# Altium integrated library Linear Technology Power Management LED Driver ICs.IntLib: 490 symbols (part 15 of 48)
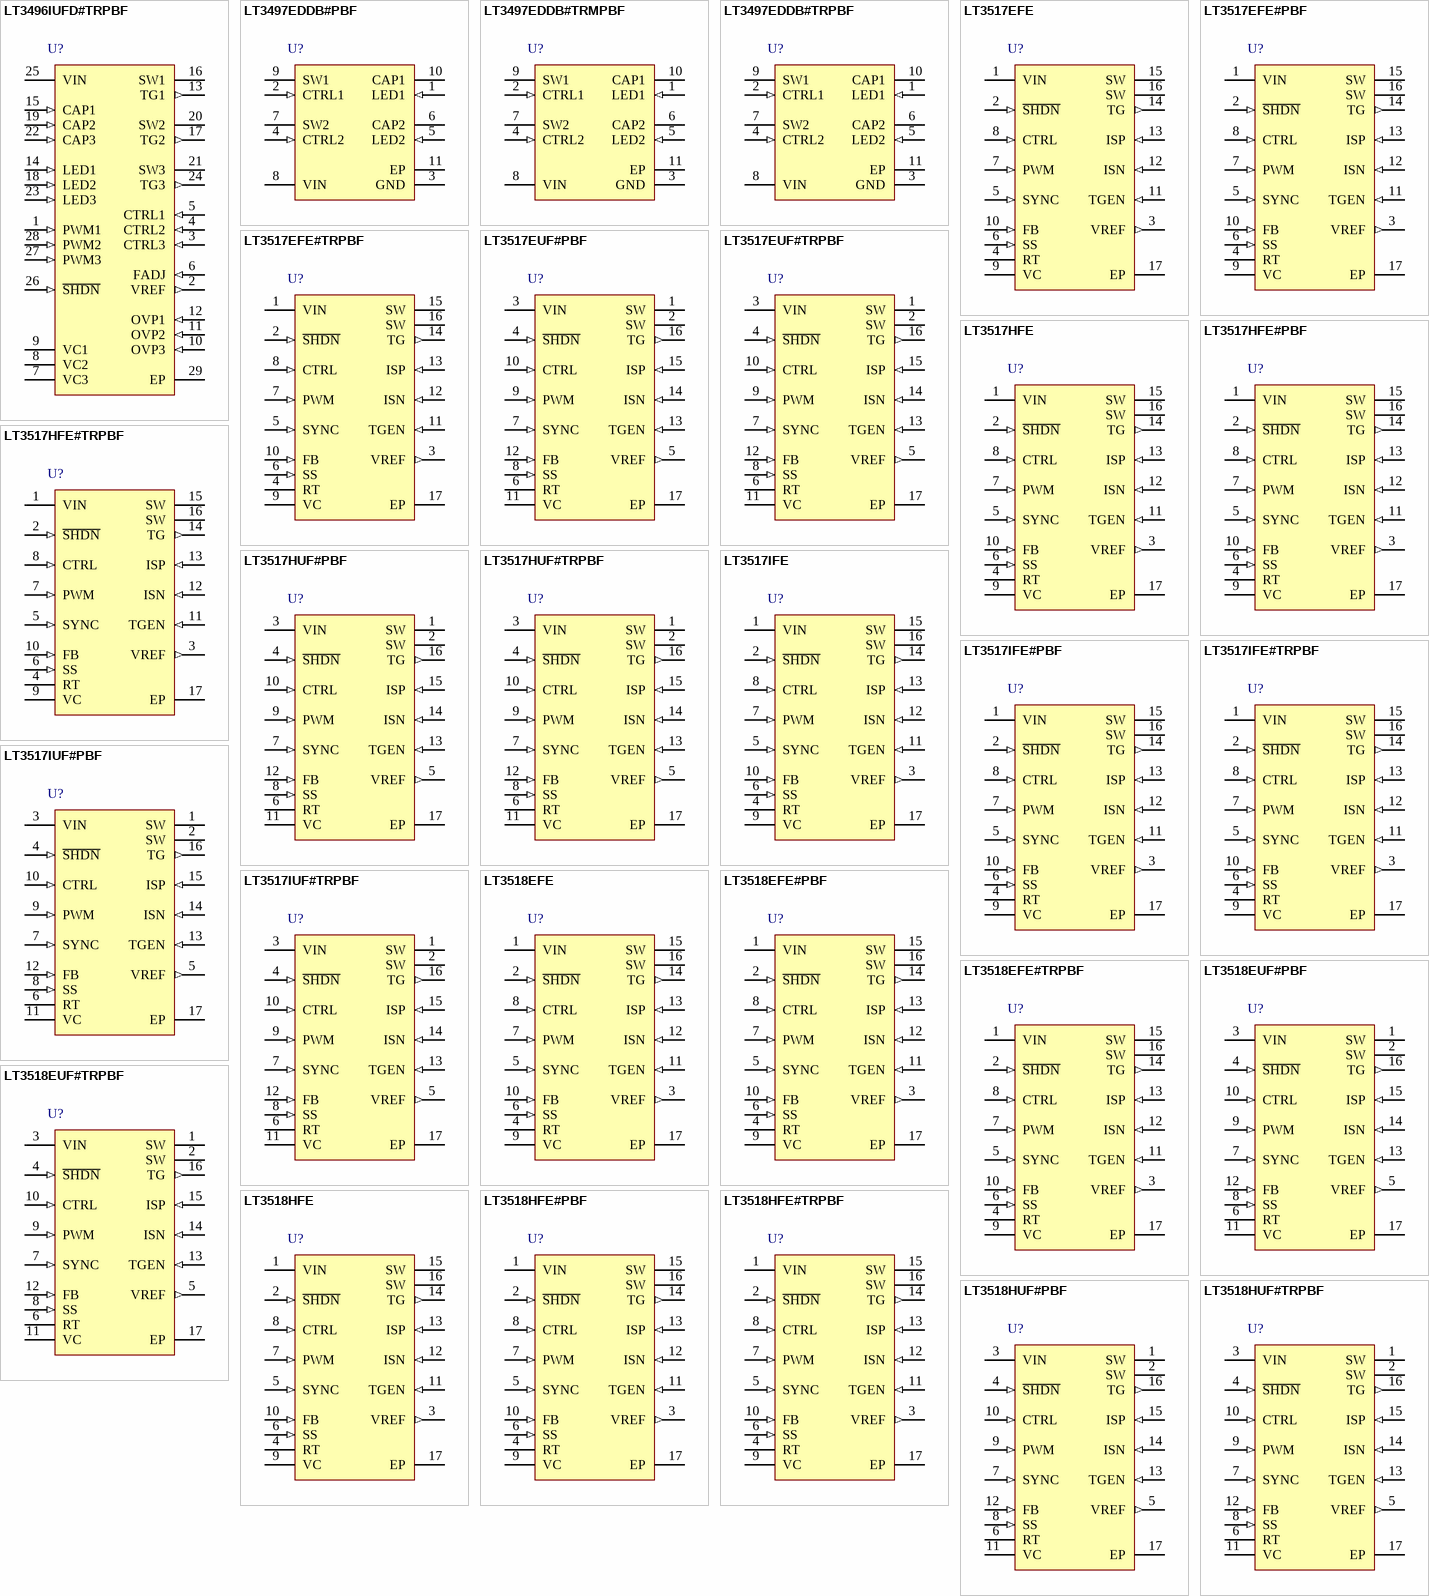
[diagram p34: symbols LT3496IUFD#TRPBF to LT3518HUF#TRPBF]

## LT3518HUF#TRPBF
designator U?
Full-Featured LED Driver with 2.3 A Switch Current, 3 to 40 V Vin, 45 V Vout MAX, 16-pin QFN (UF-16), -40 to 150 degC, Pb-Free, Tape and Reel; Manufacturer: Linear Technology; PartNumber: LT3518HUF#TRPBF; Topology: Buck, Boost, Buck-Boost, LED Driver; Vin Min(V): 3; DatasheetVersion: Rev. E; PackageVersion: Jun-10; PackageReference: UF-16; PackageDescription: 16-Pin Plastic QFN, Body 4 x 4 mm, Pitch 0.65 mm; Supplier 1: Digi-Key; Supplier Part Number 1: LT3518HUF#TRPBF-ND; Supplier 2: Newark; Supplier Part Number 2: 27W9528; Packing: Tape and Reel; RoHS: TRUE; Mounting Technology: Surface Mount; Code_JEDEC: MO-220; ComponentLink1Description: Manufacturer URL; ComponentLink1URL: http://www.linear.com/; ComponentLink2Description: Datasheet; ComponentLink2URL: http://cds.linear.com/docs/en/datasheet/3518fe.pdf; ComponentLink3Description: Package Specification; ComponentLink3URL: http://cds.linear.com/docs/en/packaging/QFN_16_05-08-1692.pdf
footprint LT-UF-16_N (QFN, 16-Leads, Body 4.1x4.1mm, Pitch 0.65mm, Thermal Pad 2.15x2.15mm, IPC Medium Density)
footprint LT-UF-16_L (QFN, 16-Leads, Body 4.1x4.1mm, Pitch 0.65mm, Thermal Pad 2.15x2.15mm, IPC High Density)
footprint LT-UF-16_M (QFN, 16-Leads, Body 4.1x4.1mm, Pitch 0.65mm, Thermal Pad 2.15x2.15mm, IPC Low Density)
pins: 1 SW (power) "Switch Pin. Minimize trace at this pin to reduce EMI.", 2 SW (power) "Switch Pin. Minimize trace at this pin to reduce EMI.", 3 VIN (power) "Input Supply Pin. Must be locally bypassed.", 4 ~{SHDN} (in) "Shutdown Pin. Tie to 1.5V or higher to enable device or 0.4V or less to disable device.", 5 VREF (out) "Reference Output Pin. This pin can supply up to 100uA.", 6 RT "Switching Frequency Adjustment Pin. Set switching frequency using a resistor to GND (see Typical Performance Characteristics for values). For SYNC function, choose the resistor to program a frequency 20% slower than the SYNC (See Datasheet)", 7 SYNC (in) "Frequency Synchronization Pin. Tie an external clock signal here. RT resistor should be chosen to program a switching frequency 20% slower than SYNC pulse frequency. Synchronization (power switch turn-on) occurs a fixed (See Datasheet)", 8 SS (in) "Soft-Start Pin. Place a soft-start capacitor here. Leave the pin open if not in use.", 9 PWM (in) "Pulse Width Modulated Input Pin. Signal low turns off channel, disables the main switch and makes the TG pin high. Tie the PWM pin to S\H\D\N\ pin if not used. There is an equivalent 50k resistor from PWM pin to ground (See Datasheet)", 10 CTRL (in) "LED Current Adjustment Pin. Sets voltage across sense resistor between ISP and ISN. Connect directly to VREF for full-scale threshold of 100mV, or use signal values between GND and 1V to modulate LED current. Tie the CTRL (See Datasheet)", 11 VC "gm Error Amplifier Output Pin. Stabilize the loop with an RC network or compensating C.", 12 FB (in) "Voltage Loop Feedback Pin. Works as overvoltage protection for LED drivers. If FB is higher than 1V, the main switch is turned off.", 13 TGEN (in) "Top Gate Enable Input Pin. Tie to 1.5V or higher to enable the PMOS driver function. Tie the TGEN pin to ground if TG function is not used. There is an equivalent 40k resistor from TGEN pin to ground internally.", 14 ISN (in) "Current Sense (-) Pin. The inverting input to the current sense amplifier.", 15 ISP (in) "Current Sense (+) Pin. The noninverting input to the current sense amplifier. Also serves as positive rail for TG pin driver.", 16 TG (out) "Top Gate Driver Output. An inverted PWM signal drives series PMOS device between VISP and (VISP - 7V). An internal 7V clamp protects the VISP PMOS gate. Leave TG unconnected if not used.", 17 EP (power) "Exposed Pad. Solder paddle directly to ground plane."

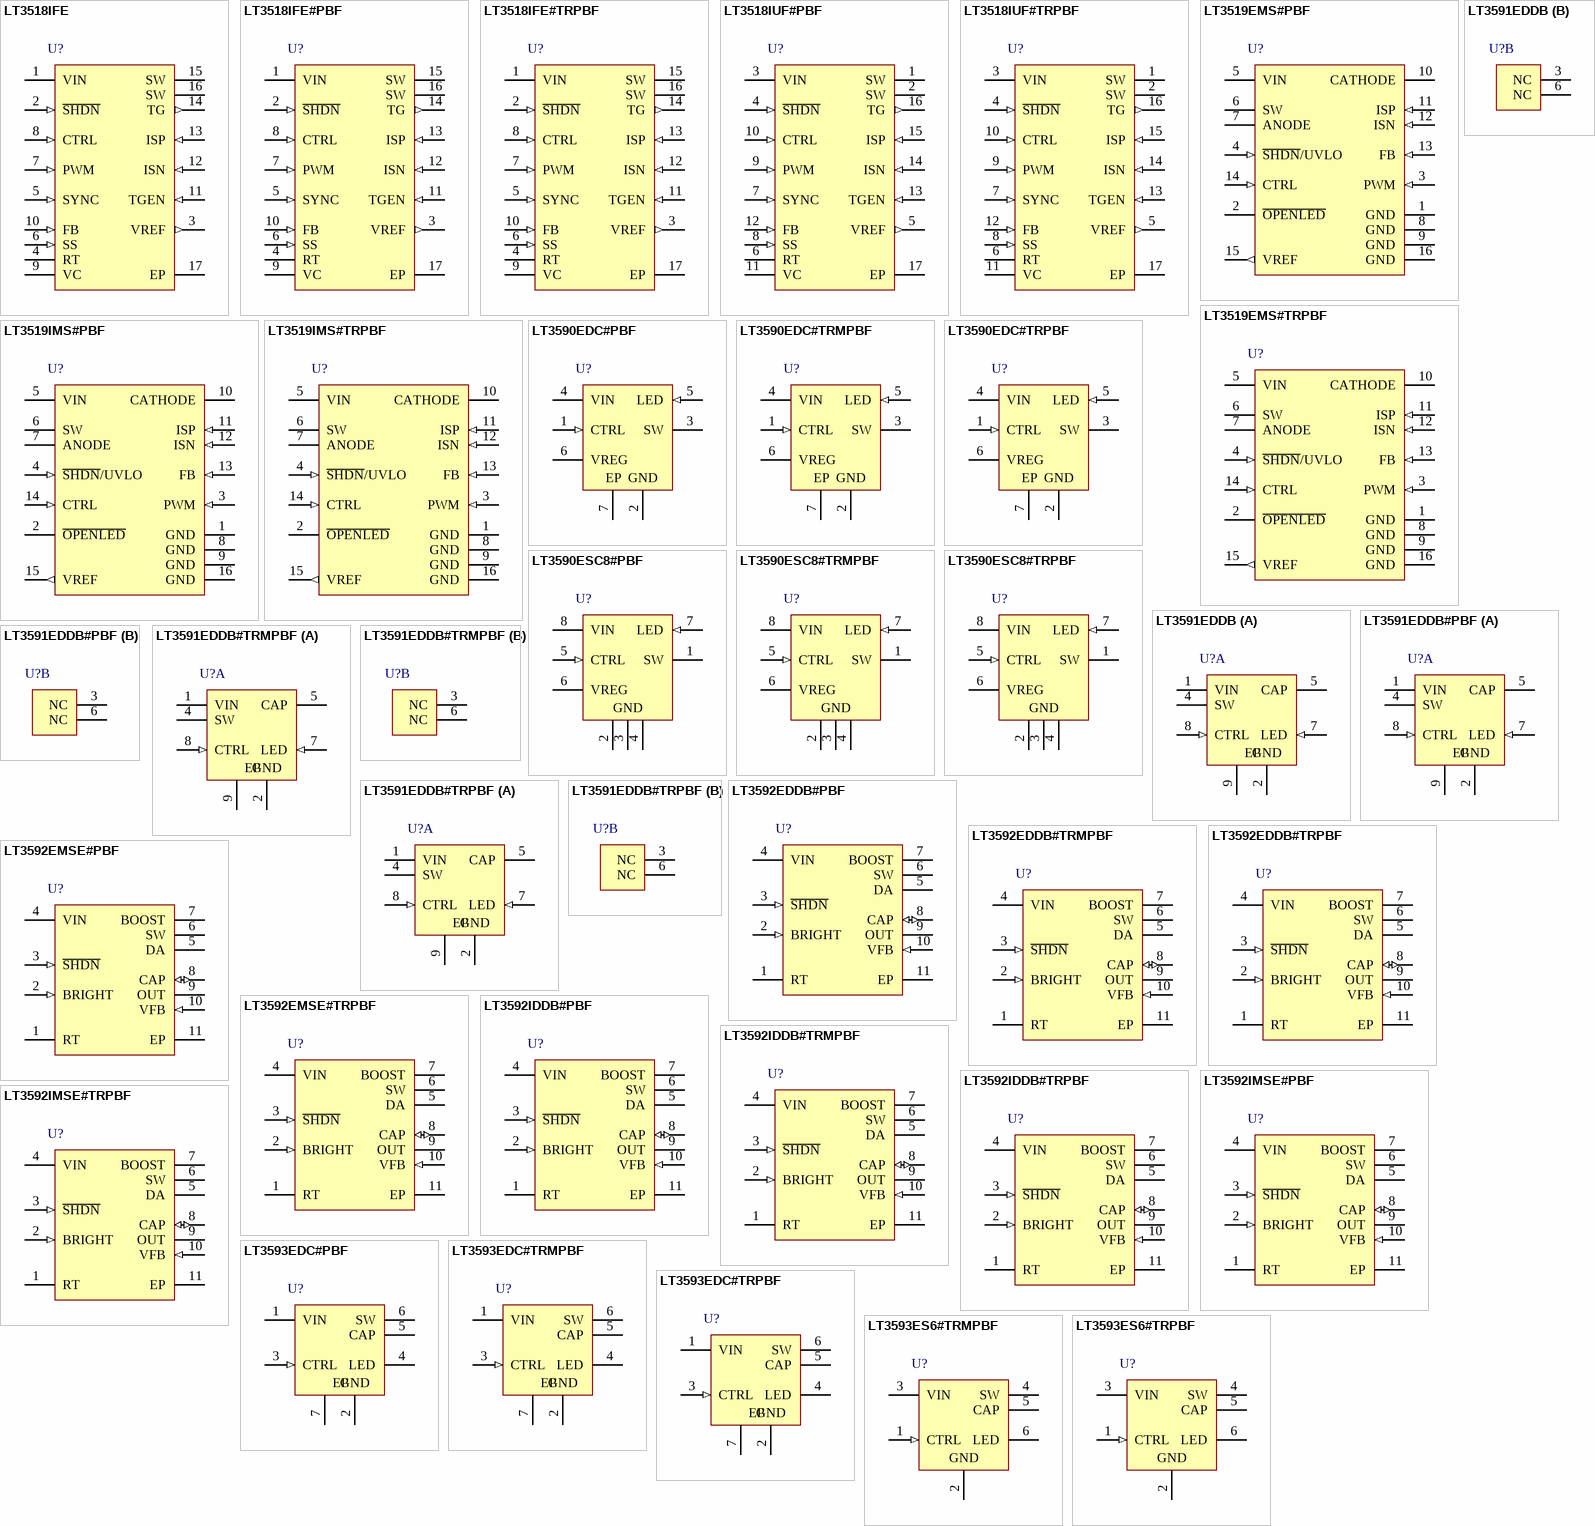
[diagram p6: symbols LT3518IFE to LT3593ES6#TRPBF]

## LT3518IFE
designator U?
Full-Featured LED Driver with 2.3 A Switch Current, 3 to 40 V Vin, 45 V Vout MAX, 16-pin SOP (FE-16-EPV-BA), -40 to 125 degC; Manufacturer: Linear Technology; PartNumber: LT3518IFE; Topology: Buck, Boost, Buck-Boost, LED Driver; Vin Min(V): 3; DatasheetVersion: Rev. E; PackageVersion: Rev. I, 05/2011; PackageReference: FE-16; PackageDescription: 16-Pin Plastic TSSOP, Body 5 x 4.4 mm, Pitch 0.65 mm; RoHS: FALSE; Mounting Technology: Surface Mount; ComponentLink1Description: Manufacturer URL; ComponentLink1URL: http://www.linear.com/; ComponentLink2Description: Datasheet; ComponentLink2URL: http://cds.linear.com/docs/en/datasheet/3518fe.pdf; ComponentLink3Description: Package Specification; ComponentLink3URL: http://cds.linear.com/docs/en/packaging/05081663_J_FE16(BA).pdf
footprint LT-FE-16-EPV-BA_N (SOP, 16-Leads, Body 5x4.4mm, Pitch 0.65mm, Thermal Pad 2.74x2.74mm, IPC Medium Density)
footprint LT-FE-16-EPV-BA_L (SOP, 16-Leads, Body 5x4.4mm, Pitch 0.65mm, Thermal Pad 2.74x2.74mm, IPC High Density)
footprint LT-FE-16-EPV-BA_M (SOP, 16-Leads, Body 5x4.4mm, Pitch 0.65mm, Thermal Pad 2.74x2.74mm, IPC Low Density)
pins: 1 VIN (power) "Input Supply Pin. Must be locally bypassed.", 2 ~{SHDN} (in) "Shutdown Pin. Tie to 1.5V or higher to enable device or 0.4V or less to disable device.", 3 VREF (out) "Reference Output Pin. This pin can supply up to 100uA.", 4 RT "Switching Frequency Adjustment Pin. Set switching frequency using a resistor to GND (see Typical Performance Characteristics for values). For SYNC function, choose the resistor to program a frequency 20% slower than the SYNC (See Datasheet)", 5 SYNC (in) "Frequency Synchronization Pin. Tie an external clock signal here. RT resistor should be chosen to program a switching frequency 20% slower than SYNC pulse frequency. Synchronization (power switch turn-on) occurs a fixed (See Datasheet)", 6 SS (in) "Soft-Start Pin. Place a soft-start capacitor here. Leave the pin open if not in use.", 7 PWM (in) "Pulse Width Modulated Input Pin. Signal low turns off channel, disables the main switch and makes the TG pin high. Tie the PWM pin to S\H\D\N\ pin if not used. There is an equivalent 50k resistor from PWM pin to ground (See Datasheet)", 8 CTRL (in) "LED Current Adjustment Pin. Sets voltage across sense resistor between ISP and ISN. Connect directly to VREF for full-scale threshold of 100mV, or use signal values between GND and 1V to modulate LED current. Tie the CTRL (See Datasheet)", 9 VC "gm Error Amplifier Output Pin. Stabilize the loop with an RC network or compensating C.", 10 FB (in) "Voltage Loop Feedback Pin. Works as overvoltage protection for LED drivers. If FB is higher than 1V, the main switch is turned off.", 11 TGEN (in) "Top Gate Enable Input Pin. Tie to 1.5V or higher to enable the PMOS driver function. Tie the TGEN pin to ground if TG function is not used. There is an equivalent 40k resistor from TGEN pin to ground internally.", 12 ISN (in) "Current Sense (-) Pin. The inverting input to the current sense amplifier.", 13 ISP (in) "Current Sense (+) Pin. The noninverting input to the current sense amplifier. Also serves as positive rail for TG pin driver.", 14 TG (out) "Top Gate Driver Output. An inverted PWM signal drives series PMOS device between VISP and (VISP - 7V). An internal 7V clamp protects the VISP PMOS gate. Leave TG unconnected if not used.", 15 SW (power) "Switch Pin. Minimize trace at this pin to reduce EMI.", 16 SW (power) "Switch Pin. Minimize trace at this pin to reduce EMI.", 17 EP (power) "Exposed Pad. Solder paddle directly to ground plane."

## LT3518IFE#PBF
designator U?
Full-Featured LED Driver with 2.3 A Switch Current, 3 to 40 V Vin, 45 V Vout MAX, 16-pin SOP (FE-16-EPV-BA), -40 to 125 degC, Pb-Free; Manufacturer: Linear Technology; PartNumber: LT3518IFE#PBF; Topology: Buck, Boost, Buck-Boost, LED Driver; Vin Min(V): 3; DatasheetVersion: Rev. E; PackageVersion: Rev. I, 05/2011; PackageReference: FE-16; PackageDescription: 16-Pin Plastic TSSOP, Body 5 x 4.4 mm, Pitch 0.65 mm; Supplier 1: Digi-Key; Supplier Part Number 1: LT3518IFE#PBF-ND; RoHS: TRUE; Mounting Technology: Surface Mount; ComponentLink1Description: Manufacturer URL; ComponentLink1URL: http://www.linear.com/; ComponentLink2Description: Datasheet; ComponentLink2URL: http://cds.linear.com/docs/en/datasheet/3518fe.pdf; ComponentLink3Description: Package Specification; ComponentLink3URL: http://cds.linear.com/docs/en/packaging/05081663_J_FE16(BA).pdf
footprint LT-FE-16-EPV-BA_N (SOP, 16-Leads, Body 5x4.4mm, Pitch 0.65mm, Thermal Pad 2.74x2.74mm, IPC Medium Density)
footprint LT-FE-16-EPV-BA_L (SOP, 16-Leads, Body 5x4.4mm, Pitch 0.65mm, Thermal Pad 2.74x2.74mm, IPC High Density)
footprint LT-FE-16-EPV-BA_M (SOP, 16-Leads, Body 5x4.4mm, Pitch 0.65mm, Thermal Pad 2.74x2.74mm, IPC Low Density)
pins: 1 VIN (power) "Input Supply Pin. Must be locally bypassed.", 2 ~{SHDN} (in) "Shutdown Pin. Tie to 1.5V or higher to enable device or 0.4V or less to disable device.", 3 VREF (out) "Reference Output Pin. This pin can supply up to 100uA.", 4 RT "Switching Frequency Adjustment Pin. Set switching frequency using a resistor to GND (see Typical Performance Characteristics for values). For SYNC function, choose the resistor to program a frequency 20% slower than the SYNC (See Datasheet)", 5 SYNC (in) "Frequency Synchronization Pin. Tie an external clock signal here. RT resistor should be chosen to program a switching frequency 20% slower than SYNC pulse frequency. Synchronization (power switch turn-on) occurs a fixed (See Datasheet)", 6 SS (in) "Soft-Start Pin. Place a soft-start capacitor here. Leave the pin open if not in use.", 7 PWM (in) "Pulse Width Modulated Input Pin. Signal low turns off channel, disables the main switch and makes the TG pin high. Tie the PWM pin to S\H\D\N\ pin if not used. There is an equivalent 50k resistor from PWM pin to ground (See Datasheet)", 8 CTRL (in) "LED Current Adjustment Pin. Sets voltage across sense resistor between ISP and ISN. Connect directly to VREF for full-scale threshold of 100mV, or use signal values between GND and 1V to modulate LED current. Tie the CTRL (See Datasheet)", 9 VC "gm Error Amplifier Output Pin. Stabilize the loop with an RC network or compensating C.", 10 FB (in) "Voltage Loop Feedback Pin. Works as overvoltage protection for LED drivers. If FB is higher than 1V, the main switch is turned off.", 11 TGEN (in) "Top Gate Enable Input Pin. Tie to 1.5V or higher to enable the PMOS driver function. Tie the TGEN pin to ground if TG function is not used. There is an equivalent 40k resistor from TGEN pin to ground internally.", 12 ISN (in) "Current Sense (-) Pin. The inverting input to the current sense amplifier.", 13 ISP (in) "Current Sense (+) Pin. The noninverting input to the current sense amplifier. Also serves as positive rail for TG pin driver.", 14 TG (out) "Top Gate Driver Output. An inverted PWM signal drives series PMOS device between VISP and (VISP - 7V). An internal 7V clamp protects the VISP PMOS gate. Leave TG unconnected if not used.", 15 SW (power) "Switch Pin. Minimize trace at this pin to reduce EMI.", 16 SW (power) "Switch Pin. Minimize trace at this pin to reduce EMI.", 17 EP (power) "Exposed Pad. Solder paddle directly to ground plane."

## LT3518IFE#TRPBF
designator U?
Full-Featured LED Driver with 2.3 A Switch Current, 3 to 40 V Vin, 45 V Vout MAX, 16-pin SOP (FE-16-EPV-BA), -40 to 125 degC, Pb-Free, Tape and Reel; Manufacturer: Linear Technology; PartNumber: LT3518IFE#TRPBF; Topology: Buck, Boost, Buck-Boost, LED Driver; Vin Min(V): 3; DatasheetVersion: Rev. E; PackageVersion: Rev. I, 05/2011; PackageReference: FE-16; PackageDescription: 16-Pin Plastic TSSOP, Body 5 x 4.4 mm, Pitch 0.65 mm; Supplier 1: Digi-Key; Supplier Part Number 1: LT3518IFE#TRPBF-ND; Packing: Tape and Reel; RoHS: TRUE; Mounting Technology: Surface Mount; ComponentLink1Description: Manufacturer URL; ComponentLink1URL: http://www.linear.com/; ComponentLink2Description: Datasheet; ComponentLink2URL: http://cds.linear.com/docs/en/datasheet/3518fe.pdf; ComponentLink3Description: Package Specification; ComponentLink3URL: http://cds.linear.com/docs/en/packaging/05081663_J_FE16(BA).pdf
footprint LT-FE-16-EPV-BA_N (SOP, 16-Leads, Body 5x4.4mm, Pitch 0.65mm, Thermal Pad 2.74x2.74mm, IPC Medium Density)
footprint LT-FE-16-EPV-BA_L (SOP, 16-Leads, Body 5x4.4mm, Pitch 0.65mm, Thermal Pad 2.74x2.74mm, IPC High Density)
footprint LT-FE-16-EPV-BA_M (SOP, 16-Leads, Body 5x4.4mm, Pitch 0.65mm, Thermal Pad 2.74x2.74mm, IPC Low Density)
pins: 1 VIN (power) "Input Supply Pin. Must be locally bypassed.", 2 ~{SHDN} (in) "Shutdown Pin. Tie to 1.5V or higher to enable device or 0.4V or less to disable device.", 3 VREF (out) "Reference Output Pin. This pin can supply up to 100uA.", 4 RT "Switching Frequency Adjustment Pin. Set switching frequency using a resistor to GND (see Typical Performance Characteristics for values). For SYNC function, choose the resistor to program a frequency 20% slower than the SYNC (See Datasheet)", 5 SYNC (in) "Frequency Synchronization Pin. Tie an external clock signal here. RT resistor should be chosen to program a switching frequency 20% slower than SYNC pulse frequency. Synchronization (power switch turn-on) occurs a fixed (See Datasheet)", 6 SS (in) "Soft-Start Pin. Place a soft-start capacitor here. Leave the pin open if not in use.", 7 PWM (in) "Pulse Width Modulated Input Pin. Signal low turns off channel, disables the main switch and makes the TG pin high. Tie the PWM pin to S\H\D\N\ pin if not used. There is an equivalent 50k resistor from PWM pin to ground (See Datasheet)", 8 CTRL (in) "LED Current Adjustment Pin. Sets voltage across sense resistor between ISP and ISN. Connect directly to VREF for full-scale threshold of 100mV, or use signal values between GND and 1V to modulate LED current. Tie the CTRL (See Datasheet)", 9 VC "gm Error Amplifier Output Pin. Stabilize the loop with an RC network or compensating C.", 10 FB (in) "Voltage Loop Feedback Pin. Works as overvoltage protection for LED drivers. If FB is higher than 1V, the main switch is turned off.", 11 TGEN (in) "Top Gate Enable Input Pin. Tie to 1.5V or higher to enable the PMOS driver function. Tie the TGEN pin to ground if TG function is not used. There is an equivalent 40k resistor from TGEN pin to ground internally.", 12 ISN (in) "Current Sense (-) Pin. The inverting input to the current sense amplifier.", 13 ISP (in) "Current Sense (+) Pin. The noninverting input to the current sense amplifier. Also serves as positive rail for TG pin driver.", 14 TG (out) "Top Gate Driver Output. An inverted PWM signal drives series PMOS device between VISP and (VISP - 7V). An internal 7V clamp protects the VISP PMOS gate. Leave TG unconnected if not used.", 15 SW (power) "Switch Pin. Minimize trace at this pin to reduce EMI.", 16 SW (power) "Switch Pin. Minimize trace at this pin to reduce EMI.", 17 EP (power) "Exposed Pad. Solder paddle directly to ground plane."

## LT3518IUF#PBF
designator U?
Full-Featured LED Driver with 2.3 A Switch Current, 3 to 40 V Vin, 45 V Vout MAX, 16-pin QFN (UF-16), -40 to 125 degC, Pb-Free; Manufacturer: Linear Technology; PartNumber: LT3518IUF#PBF; Topology: Buck, Boost, Buck-Boost, LED Driver; Vin Min(V): 3; DatasheetVersion: Rev. E; PackageVersion: Jun-10; PackageReference: UF-16; PackageDescription: 16-Pin Plastic QFN, Body 4 x 4 mm, Pitch 0.65 mm; Supplier 1: Digi-Key; Supplier Part Number 1: LT3518IUF#PBF-ND; Supplier 2: Farnell; Supplier Part Number 2: 1432695; Supplier 3: Newark; Supplier Part Number 3: 57M8513; RoHS: TRUE; Mounting Technology: Surface Mount; Code_JEDEC: MO-220; ComponentLink1Description: Manufacturer URL; ComponentLink1URL: http://www.linear.com/; ComponentLink2Description: Datasheet; ComponentLink2URL: http://cds.linear.com/docs/en/datasheet/3518fe.pdf; ComponentLink3Description: Package Specification; ComponentLink3URL: http://cds.linear.com/docs/en/packaging/QFN_16_05-08-1692.pdf
footprint LT-UF-16_N (QFN, 16-Leads, Body 4.1x4.1mm, Pitch 0.65mm, Thermal Pad 2.15x2.15mm, IPC Medium Density)
footprint LT-UF-16_L (QFN, 16-Leads, Body 4.1x4.1mm, Pitch 0.65mm, Thermal Pad 2.15x2.15mm, IPC High Density)
footprint LT-UF-16_M (QFN, 16-Leads, Body 4.1x4.1mm, Pitch 0.65mm, Thermal Pad 2.15x2.15mm, IPC Low Density)
pins: 1 SW (power) "Switch Pin. Minimize trace at this pin to reduce EMI.", 2 SW (power) "Switch Pin. Minimize trace at this pin to reduce EMI.", 3 VIN (power) "Input Supply Pin. Must be locally bypassed.", 4 ~{SHDN} (in) "Shutdown Pin. Tie to 1.5V or higher to enable device or 0.4V or less to disable device.", 5 VREF (out) "Reference Output Pin. This pin can supply up to 100uA.", 6 RT "Switching Frequency Adjustment Pin. Set switching frequency using a resistor to GND (see Typical Performance Characteristics for values). For SYNC function, choose the resistor to program a frequency 20% slower than the SYNC (See Datasheet)", 7 SYNC (in) "Frequency Synchronization Pin. Tie an external clock signal here. RT resistor should be chosen to program a switching frequency 20% slower than SYNC pulse frequency. Synchronization (power switch turn-on) occurs a fixed (See Datasheet)", 8 SS (in) "Soft-Start Pin. Place a soft-start capacitor here. Leave the pin open if not in use.", 9 PWM (in) "Pulse Width Modulated Input Pin. Signal low turns off channel, disables the main switch and makes the TG pin high. Tie the PWM pin to S\H\D\N\ pin if not used. There is an equivalent 50k resistor from PWM pin to ground (See Datasheet)", 10 CTRL (in) "LED Current Adjustment Pin. Sets voltage across sense resistor between ISP and ISN. Connect directly to VREF for full-scale threshold of 100mV, or use signal values between GND and 1V to modulate LED current. Tie the CTRL (See Datasheet)", 11 VC "gm Error Amplifier Output Pin. Stabilize the loop with an RC network or compensating C.", 12 FB (in) "Voltage Loop Feedback Pin. Works as overvoltage protection for LED drivers. If FB is higher than 1V, the main switch is turned off.", 13 TGEN (in) "Top Gate Enable Input Pin. Tie to 1.5V or higher to enable the PMOS driver function. Tie the TGEN pin to ground if TG function is not used. There is an equivalent 40k resistor from TGEN pin to ground internally.", 14 ISN (in) "Current Sense (-) Pin. The inverting input to the current sense amplifier.", 15 ISP (in) "Current Sense (+) Pin. The noninverting input to the current sense amplifier. Also serves as positive rail for TG pin driver.", 16 TG (out) "Top Gate Driver Output. An inverted PWM signal drives series PMOS device between VISP and (VISP - 7V). An internal 7V clamp protects the VISP PMOS gate. Leave TG unconnected if not used.", 17 EP (power) "Exposed Pad. Solder paddle directly to ground plane."

## LT3518IUF#TRPBF
designator U?
Full-Featured LED Driver with 2.3 A Switch Current, 3 to 40 V Vin, 45 V Vout MAX, 16-pin QFN (UF-16), -40 to 125 degC, Pb-Free, Tape and Reel; Manufacturer: Linear Technology; PartNumber: LT3518IUF#TRPBF; Topology: Buck, Boost, Buck-Boost, LED Driver; Vin Min(V): 3; DatasheetVersion: Rev. E; PackageVersion: Jun-10; PackageReference: UF-16; PackageDescription: 16-Pin Plastic QFN, Body 4 x 4 mm, Pitch 0.65 mm; Supplier 1: Digi-Key; Supplier Part Number 1: LT3518IUF#TRPBF-ND; Packing: Tape and Reel; RoHS: TRUE; Mounting Technology: Surface Mount; Code_JEDEC: MO-220; ComponentLink1Description: Manufacturer URL; ComponentLink1URL: http://www.linear.com/; ComponentLink2Description: Datasheet; ComponentLink2URL: http://cds.linear.com/docs/en/datasheet/3518fe.pdf; ComponentLink3Description: Package Specification; ComponentLink3URL: http://cds.linear.com/docs/en/packaging/QFN_16_05-08-1692.pdf
footprint LT-UF-16_N (QFN, 16-Leads, Body 4.1x4.1mm, Pitch 0.65mm, Thermal Pad 2.15x2.15mm, IPC Medium Density)
footprint LT-UF-16_L (QFN, 16-Leads, Body 4.1x4.1mm, Pitch 0.65mm, Thermal Pad 2.15x2.15mm, IPC High Density)
footprint LT-UF-16_M (QFN, 16-Leads, Body 4.1x4.1mm, Pitch 0.65mm, Thermal Pad 2.15x2.15mm, IPC Low Density)
pins: 1 SW (power) "Switch Pin. Minimize trace at this pin to reduce EMI.", 2 SW (power) "Switch Pin. Minimize trace at this pin to reduce EMI.", 3 VIN (power) "Input Supply Pin. Must be locally bypassed.", 4 ~{SHDN} (in) "Shutdown Pin. Tie to 1.5V or higher to enable device or 0.4V or less to disable device.", 5 VREF (out) "Reference Output Pin. This pin can supply up to 100uA.", 6 RT "Switching Frequency Adjustment Pin. Set switching frequency using a resistor to GND (see Typical Performance Characteristics for values). For SYNC function, choose the resistor to program a frequency 20% slower than the SYNC (See Datasheet)", 7 SYNC (in) "Frequency Synchronization Pin. Tie an external clock signal here. RT resistor should be chosen to program a switching frequency 20% slower than SYNC pulse frequency. Synchronization (power switch turn-on) occurs a fixed (See Datasheet)", 8 SS (in) "Soft-Start Pin. Place a soft-start capacitor here. Leave the pin open if not in use.", 9 PWM (in) "Pulse Width Modulated Input Pin. Signal low turns off channel, disables the main switch and makes the TG pin high. Tie the PWM pin to S\H\D\N\ pin if not used. There is an equivalent 50k resistor from PWM pin to ground (See Datasheet)", 10 CTRL (in) "LED Current Adjustment Pin. Sets voltage across sense resistor between ISP and ISN. Connect directly to VREF for full-scale threshold of 100mV, or use signal values between GND and 1V to modulate LED current. Tie the CTRL (See Datasheet)", 11 VC "gm Error Amplifier Output Pin. Stabilize the loop with an RC network or compensating C.", 12 FB (in) "Voltage Loop Feedback Pin. Works as overvoltage protection for LED drivers. If FB is higher than 1V, the main switch is turned off.", 13 TGEN (in) "Top Gate Enable Input Pin. Tie to 1.5V or higher to enable the PMOS driver function. Tie the TGEN pin to ground if TG function is not used. There is an equivalent 40k resistor from TGEN pin to ground internally.", 14 ISN (in) "Current Sense (-) Pin. The inverting input to the current sense amplifier.", 15 ISP (in) "Current Sense (+) Pin. The noninverting input to the current sense amplifier. Also serves as positive rail for TG pin driver.", 16 TG (out) "Top Gate Driver Output. An inverted PWM signal drives series PMOS device between VISP and (VISP - 7V). An internal 7V clamp protects the VISP PMOS gate. Leave TG unconnected if not used.", 17 EP (power) "Exposed Pad. Solder paddle directly to ground plane."

## LT3519EMS#PBF
designator U?
LED Driver with Integrated Schottky Diode, 3 to 30 V Vin, 45 V Vout MAX, 16-pin SOP (MS-16), -40 to 125 degC, Pb-Free; Manufacturer: Linear Technology; PartNumber: LT3519EMS#PBF; Topology: Boost, Sepic, Buck-Boost, Buck, LED Driver; Vin Min(V): 3; DatasheetVersion: Rev. A; PackageVersion: Rev. Ø, 06/2010; PackageReference: MS16; PackageDescription: 16-Pin Plastic MSOP, Body 4.04 x 3.00 mm, Pitch 0.50 mm; Supplier 1: Digi-Key; Supplier Part Number 1: LT3519EMS#PBF-ND; Supplier 2: Farnell; Supplier Part Number 2: 2294851; Supplier 3: Newark; Supplier Part Number 3: 72R5822; RoHS: TRUE; Mounting Technology: Surface Mount; ComponentLink1Description: Manufacturer URL; ComponentLink1URL: http://www.linear.com/; ComponentLink2Description: Datasheet; ComponentLink2URL: http://cds.linear.com/docs/en/datasheet/3519fa.pdf; ComponentLink3Description: Package Specification; ComponentLink3URL: http://cds.linear.com/docs/en/packaging/05081669_A_MS16.pdf
footprint LT-MS-16_N (SOP, 16-Leads, Body 4.1x3.1mm, Pitch 0.5mm, IPC Medium Density)
footprint LT-MS-16_L (SOP, 16-Leads, Body 4.1x3.1mm, Pitch 0.5mm, IPC High Density)
footprint LT-MS-16_M (SOP, 16-Leads, Body 4.1x3.1mm, Pitch 0.5mm, IPC Low Density)
pins: 1 GND (power) "Power Ground and Signal Ground. Tie to GND plane for best thermal performance.", 2 ~{OPENLED} (oc) "Open LED Status Pin. The O\P\E\N\L\E\D\ pin asserts if the FB input is greater than the FB regulation threshold minus 60mV (typical). The pin must have an external pull-up resistor to function. When the PWM input is low and (See Datasheet)", 3 PWM (in) "Pulse Width Modulated Input. A signal low disables the oscillator and turns off the main switch. PWM has an internal pull-down resistor. Tie PWM pin to VREF if not used.", 4 ~{SHDN}/UVLO (in) "Shutdown and Undervoltage Lockout Pin. An accurate 1.22V falling threshold with externally programmable hysteresis detects when power is okay to enable switching. Rising hysteresis is generated by the external resistor (See Datasheet)", 5 VIN (power) "Input Supply Pin. This pin must be locally bypassed with a 1uF ceramic capacitor (or larger) placed close to it.", 6 SW "Switch Pin. Connect the inductor at this pin. Minimize the trace at this pin to reduce EMI.", 7 ANODE "Internal Schottky Anode Pin.", 8 GND (power) "Power Ground and Signal Ground. Tie to GND plane for best thermal performance.", 9 GND (power) "Power Ground and Signal Ground. Tie to GND plane for best thermal performance.", 10 CATHODE "Internal Schottky Cathode Pin.", 11 ISP (in) "Current Sense Resistor Positive Pin. This input is the noninverting input of the internal current sense amplifier. Input bias current increases with VISP-VISN increase.", 12 ISN (in) "Current Sense Resistor Negative Pin. This input is the inverting input of the internal current sense amplifier.", 13 FB (in) "Voltage Loop Feedback Pin. It is used to connect to output resistor divider for constant voltage regulation or open LED protection. The internal transconductance amplifier will regulate FB to 1.22V (nominal) through the (See Datasheet)", 14 CTRL (in) "Current Sense Threshold Voltage Adjustment Pin. This pin sets the threshold voltage across the sense resistor between ISP and ISN. Connect directly to the VREF pin or a voltage above 1.2V for full-scale threshold of 250mV, (See Datasheet)", 15 VREF (out) "Reference Output Pin. Typically 2V. This pin can supply up to 100uA.", 16 GND (power) "Power Ground and Signal Ground. Tie to GND plane for best thermal performance."

## LT3519EMS#TRPBF
designator U?
LED Driver with Integrated Schottky Diode, 3 to 30 V Vin, 45 V Vout MAX, 16-pin SOP (MS-16), -40 to 125 degC, Pb-Free, Tape and Reel; Manufacturer: Linear Technology; PartNumber: LT3519EMS#TRPBF; Topology: Boost, Sepic, Buck-Boost, Buck, LED Driver; Vin Min(V): 3; DatasheetVersion: Rev. A; PackageVersion: Rev. Ø, 06/2010; PackageReference: MS16; PackageDescription: 16-Pin Plastic MSOP, Body 4.04 x 3.00 mm, Pitch 0.50 mm; Supplier 1: Digi-Key; Supplier Part Number 1: LT3519EMS#TRPBF-ND; Packing: Tape and Reel; RoHS: TRUE; Mounting Technology: Surface Mount; ComponentLink1Description: Manufacturer URL; ComponentLink1URL: http://www.linear.com/; ComponentLink2Description: Datasheet; ComponentLink2URL: http://cds.linear.com/docs/en/datasheet/3519fa.pdf; ComponentLink3Description: Package Specification; ComponentLink3URL: http://cds.linear.com/docs/en/packaging/05081669_A_MS16.pdf
footprint LT-MS-16_N (SOP, 16-Leads, Body 4.1x3.1mm, Pitch 0.5mm, IPC Medium Density)
footprint LT-MS-16_L (SOP, 16-Leads, Body 4.1x3.1mm, Pitch 0.5mm, IPC High Density)
footprint LT-MS-16_M (SOP, 16-Leads, Body 4.1x3.1mm, Pitch 0.5mm, IPC Low Density)
pins: 1 GND (power) "Power Ground and Signal Ground. Tie to GND plane for best thermal performance.", 2 ~{OPENLED} (oc) "Open LED Status Pin. The O\P\E\N\L\E\D\ pin asserts if the FB input is greater than the FB regulation threshold minus 60mV (typical). The pin must have an external pull-up resistor to function. When the PWM input is low and (See Datasheet)", 3 PWM (in) "Pulse Width Modulated Input. A signal low disables the oscillator and turns off the main switch. PWM has an internal pull-down resistor. Tie PWM pin to VREF if not used.", 4 ~{SHDN}/UVLO (in) "Shutdown and Undervoltage Lockout Pin. An accurate 1.22V falling threshold with externally programmable hysteresis detects when power is okay to enable switching. Rising hysteresis is generated by the external resistor (See Datasheet)", 5 VIN (power) "Input Supply Pin. This pin must be locally bypassed with a 1uF ceramic capacitor (or larger) placed close to it.", 6 SW "Switch Pin. Connect the inductor at this pin. Minimize the trace at this pin to reduce EMI.", 7 ANODE "Internal Schottky Anode Pin.", 8 GND (power) "Power Ground and Signal Ground. Tie to GND plane for best thermal performance.", 9 GND (power) "Power Ground and Signal Ground. Tie to GND plane for best thermal performance.", 10 CATHODE "Internal Schottky Cathode Pin.", 11 ISP (in) "Current Sense Resistor Positive Pin. This input is the noninverting input of the internal current sense amplifier. Input bias current increases with VISP-VISN increase.", 12 ISN (in) "Current Sense Resistor Negative Pin. This input is the inverting input of the internal current sense amplifier.", 13 FB (in) "Voltage Loop Feedback Pin. It is used to connect to output resistor divider for constant voltage regulation or open LED protection. The internal transconductance amplifier will regulate FB to 1.22V (nominal) through the (See Datasheet)", 14 CTRL (in) "Current Sense Threshold Voltage Adjustment Pin. This pin sets the threshold voltage across the sense resistor between ISP and ISN. Connect directly to the VREF pin or a voltage above 1.2V for full-scale threshold of 250mV, (See Datasheet)", 15 VREF (out) "Reference Output Pin. Typically 2V. This pin can supply up to 100uA.", 16 GND (power) "Power Ground and Signal Ground. Tie to GND plane for best thermal performance."

## LT3519IMS#PBF
designator U?
LED Driver with Integrated Schottky Diode, 3 to 30 V Vin, 45 V Vout MAX, 16-pin SOP (MS-16), -40 to 125 degC, Pb-Free; Manufacturer: Linear Technology; PartNumber: LT3519IMS#PBF; Topology: Boost, Sepic, Buck-Boost, Buck, LED Driver; Vin Min(V): 3; DatasheetVersion: Rev. A; PackageVersion: Rev. Ø, 06/2010; PackageReference: MS16; PackageDescription: 16-Pin Plastic MSOP, Body 4.04 x 3.00 mm, Pitch 0.50 mm; Supplier 1: Digi-Key; Supplier Part Number 1: LT3519IMS#PBF-ND; RoHS: TRUE; Mounting Technology: Surface Mount; ComponentLink1Description: Manufacturer URL; ComponentLink1URL: http://www.linear.com/; ComponentLink2Description: Datasheet; ComponentLink2URL: http://cds.linear.com/docs/en/datasheet/3519fa.pdf; ComponentLink3Description: Package Specification; ComponentLink3URL: http://cds.linear.com/docs/en/packaging/05081669_A_MS16.pdf
footprint LT-MS-16_N (SOP, 16-Leads, Body 4.1x3.1mm, Pitch 0.5mm, IPC Medium Density)
footprint LT-MS-16_L (SOP, 16-Leads, Body 4.1x3.1mm, Pitch 0.5mm, IPC High Density)
footprint LT-MS-16_M (SOP, 16-Leads, Body 4.1x3.1mm, Pitch 0.5mm, IPC Low Density)
pins: 1 GND (power) "Power Ground and Signal Ground. Tie to GND plane for best thermal performance.", 2 ~{OPENLED} (oc) "Open LED Status Pin. The O\P\E\N\L\E\D\ pin asserts if the FB input is greater than the FB regulation threshold minus 60mV (typical). The pin must have an external pull-up resistor to function. When the PWM input is low and (See Datasheet)", 3 PWM (in) "Pulse Width Modulated Input. A signal low disables the oscillator and turns off the main switch. PWM has an internal pull-down resistor. Tie PWM pin to VREF if not used.", 4 ~{SHDN}/UVLO (in) "Shutdown and Undervoltage Lockout Pin. An accurate 1.22V falling threshold with externally programmable hysteresis detects when power is okay to enable switching. Rising hysteresis is generated by the external resistor (See Datasheet)", 5 VIN (power) "Input Supply Pin. This pin must be locally bypassed with a 1uF ceramic capacitor (or larger) placed close to it.", 6 SW "Switch Pin. Connect the inductor at this pin. Minimize the trace at this pin to reduce EMI.", 7 ANODE "Internal Schottky Anode Pin.", 8 GND (power) "Power Ground and Signal Ground. Tie to GND plane for best thermal performance.", 9 GND (power) "Power Ground and Signal Ground. Tie to GND plane for best thermal performance.", 10 CATHODE "Internal Schottky Cathode Pin.", 11 ISP (in) "Current Sense Resistor Positive Pin. This input is the noninverting input of the internal current sense amplifier. Input bias current increases with VISP-VISN increase.", 12 ISN (in) "Current Sense Resistor Negative Pin. This input is the inverting input of the internal current sense amplifier.", 13 FB (in) "Voltage Loop Feedback Pin. It is used to connect to output resistor divider for constant voltage regulation or open LED protection. The internal transconductance amplifier will regulate FB to 1.22V (nominal) through the (See Datasheet)", 14 CTRL (in) "Current Sense Threshold Voltage Adjustment Pin. This pin sets the threshold voltage across the sense resistor between ISP and ISN. Connect directly to the VREF pin or a voltage above 1.2V for full-scale threshold of 250mV, (See Datasheet)", 15 VREF (out) "Reference Output Pin. Typically 2V. This pin can supply up to 100uA.", 16 GND (power) "Power Ground and Signal Ground. Tie to GND plane for best thermal performance."

## LT3519IMS#TRPBF
designator U?
LED Driver with Integrated Schottky Diode, 3 to 30 V Vin, 45 V Vout MAX, 16-pin SOP (MS-16), -40 to 125 degC, Pb-Free, Tape and Reel; Manufacturer: Linear Technology; PartNumber: LT3519IMS#TRPBF; Topology: Boost, Sepic, Buck-Boost, Buck, LED Driver; Vin Min(V): 3; DatasheetVersion: Rev. A; PackageVersion: Rev. Ø, 06/2010; PackageReference: MS16; PackageDescription: 16-Pin Plastic MSOP, Body 4.04 x 3.00 mm, Pitch 0.50 mm; Supplier 1: Digi-Key; Supplier Part Number 1: LT3519IMS#TRPBF-ND; Packing: Tape and Reel; RoHS: TRUE; Mounting Technology: Surface Mount; ComponentLink1Description: Manufacturer URL; ComponentLink1URL: http://www.linear.com/; ComponentLink2Description: Datasheet; ComponentLink2URL: http://cds.linear.com/docs/en/datasheet/3519fa.pdf; ComponentLink3Description: Package Specification; ComponentLink3URL: http://cds.linear.com/docs/en/packaging/05081669_A_MS16.pdf
footprint LT-MS-16_N (SOP, 16-Leads, Body 4.1x3.1mm, Pitch 0.5mm, IPC Medium Density)
footprint LT-MS-16_L (SOP, 16-Leads, Body 4.1x3.1mm, Pitch 0.5mm, IPC High Density)
footprint LT-MS-16_M (SOP, 16-Leads, Body 4.1x3.1mm, Pitch 0.5mm, IPC Low Density)
pins: 1 GND (power) "Power Ground and Signal Ground. Tie to GND plane for best thermal performance.", 2 ~{OPENLED} (oc) "Open LED Status Pin. The O\P\E\N\L\E\D\ pin asserts if the FB input is greater than the FB regulation threshold minus 60mV (typical). The pin must have an external pull-up resistor to function. When the PWM input is low and (See Datasheet)", 3 PWM (in) "Pulse Width Modulated Input. A signal low disables the oscillator and turns off the main switch. PWM has an internal pull-down resistor. Tie PWM pin to VREF if not used.", 4 ~{SHDN}/UVLO (in) "Shutdown and Undervoltage Lockout Pin. An accurate 1.22V falling threshold with externally programmable hysteresis detects when power is okay to enable switching. Rising hysteresis is generated by the external resistor (See Datasheet)", 5 VIN (power) "Input Supply Pin. This pin must be locally bypassed with a 1uF ceramic capacitor (or larger) placed close to it.", 6 SW "Switch Pin. Connect the inductor at this pin. Minimize the trace at this pin to reduce EMI.", 7 ANODE "Internal Schottky Anode Pin.", 8 GND (power) "Power Ground and Signal Ground. Tie to GND plane for best thermal performance.", 9 GND (power) "Power Ground and Signal Ground. Tie to GND plane for best thermal performance.", 10 CATHODE "Internal Schottky Cathode Pin.", 11 ISP (in) "Current Sense Resistor Positive Pin. This input is the noninverting input of the internal current sense amplifier. Input bias current increases with VISP-VISN increase.", 12 ISN (in) "Current Sense Resistor Negative Pin. This input is the inverting input of the internal current sense amplifier.", 13 FB (in) "Voltage Loop Feedback Pin. It is used to connect to output resistor divider for constant voltage regulation or open LED protection. The internal transconductance amplifier will regulate FB to 1.22V (nominal) through the (See Datasheet)", 14 CTRL (in) "Current Sense Threshold Voltage Adjustment Pin. This pin sets the threshold voltage across the sense resistor between ISP and ISN. Connect directly to the VREF pin or a voltage above 1.2V for full-scale threshold of 250mV, (See Datasheet)", 15 VREF (out) "Reference Output Pin. Typically 2V. This pin can supply up to 100uA.", 16 GND (power) "Power Ground and Signal Ground. Tie to GND plane for best thermal performance."

## LT3590EDC#PBF
designator U?
48 V Buck Mode LED Driver, 4.5 to 55 V Vin, 55 V Vout MAX, 6-pin SON (DC6-6), -40 to 85 degC, Pb-Free; Manufacturer: Linear Technology; PartNumber: LT3590EDC#PBF; Topology: Buck, LED Driver; Vin Min(V): 4.5; PackageVersion: Rev. B, 06/2010; PackageReference: DC6-6; PackageDescription: 6-Pin Plastic DFN, Body 2 x 2 mm, Pitch 0.5 mm; Supplier 1: Farnell; Supplier Part Number 1: 1556252; Supplier 2: Newark; Supplier Part Number 2: 78T4027; RoHS: TRUE; Mounting Technology: Surface Mount; Code_JEDEC: MO-229; ComponentLink1Description: Manufacturer URL; ComponentLink1URL: http://www.linear.com/; ComponentLink2Description: Datasheet; ComponentLink2URL: http://cds.linear.com/docs/en/datasheet/3590f.pdf; ComponentLink3Description: Package Specification; ComponentLink3URL: http://cds.linear.com/docs/en/packaging/DFN_6_05-08-1703.pdf
footprint LT-DC6-6_V (SON, 6-Leads, Body 2x2mm, Pitch 0.5mm, Thermal Pad 1.42x0.61mm)
pins: 1 CTRL (in) "Dimming and Shutdown Pin.Connect it below 100mV to disable the switcher. As the pin voltage is ramped from 0V to 1.5V, the feedback voltage (VIN-VLED) ramps from 0mV to 200mV, controlling the LBD current.", 2 GND (power) "Ground Pins. All ground pins should be tied directly to local ground plane. Proper soldering of these pins to the PCB ground is required to achieve the rated thermal performance", 3 SW "Switch Pin.Minimize inductance at this pin to minimize EMI,Connect the inductor at this pin.", 4 VIN (power) "Input Supply Pin. Must be locally bypassed", 5 LED (in) "Connection point for the anode of the highest LED and the sense resistor.", 6 VREG (power) "Internally Generated 3.3V Regulated Output Pin. Must be locally bypassed with a 0.1uF X5R capacitor.", 7 EP (power) "Ground. The Exposed Pad should be soldered to the PCB ground to achieve the rated thermal performance."

## LT3590EDC#TRMPBF
designator U?
48 V Buck Mode LED Driver, 4.5 to 55 V Vin, 55 V Vout MAX, 6-pin SON (DC6-6), -40 to 85 degC, Pb-Free, Mini Tape and Reel; Manufacturer: Linear Technology; PartNumber: LT3590EDC#TRMPBF; Topology: Buck, LED Driver; Vin Min(V): 4.5; PackageVersion: Rev. B, 06/2010; PackageReference: DC6-6; PackageDescription: 6-Pin Plastic DFN, Body 2 x 2 mm, Pitch 0.5 mm; Supplier 1: Digi-Key; Supplier Part Number 1: LT3590EDC#TRMPBF-ND; Supplier 2: Newark; Supplier Part Number 2: 57M8534; Packing: Mini Tape and Reel; RoHS: TRUE; Mounting Technology: Surface Mount; Code_JEDEC: MO-229; ComponentLink1Description: Manufacturer URL; ComponentLink1URL: http://www.linear.com/; ComponentLink2Description: Datasheet; ComponentLink2URL: http://cds.linear.com/docs/en/datasheet/3590f.pdf; ComponentLink3Description: Package Specification; ComponentLink3URL: http://cds.linear.com/docs/en/packaging/DFN_6_05-08-1703.pdf
footprint LT-DC6-6_V (SON, 6-Leads, Body 2x2mm, Pitch 0.5mm, Thermal Pad 1.42x0.61mm)
pins: 1 CTRL (in) "Dimming and Shutdown Pin.Connect it below 100mV to disable the switcher. As the pin voltage is ramped from 0V to 1.5V, the feedback voltage (VIN-VLED) ramps from 0mV to 200mV, controlling the LBD current.", 2 GND (power) "Ground Pins. All ground pins should be tied directly to local ground plane. Proper soldering of these pins to the PCB ground is required to achieve the rated thermal performance", 3 SW "Switch Pin.Minimize inductance at this pin to minimize EMI,Connect the inductor at this pin.", 4 VIN (power) "Input Supply Pin. Must be locally bypassed", 5 LED (in) "Connection point for the anode of the highest LED and the sense resistor.", 6 VREG (power) "Internally Generated 3.3V Regulated Output Pin. Must be locally bypassed with a 0.1uF X5R capacitor.", 7 EP (power) "Ground. The Exposed Pad should be soldered to the PCB ground to achieve the rated thermal performance."

## LT3590EDC#TRPBF
designator U?
48 V Buck Mode LED Driver, 4.5 to 55 V Vin, 55 V Vout MAX, 6-pin SON (DC6-6), -40 to 85 degC, Pb-Free, Tape and Reel; Manufacturer: Linear Technology; PartNumber: LT3590EDC#TRPBF; Topology: Buck, LED Driver; Vin Min(V): 4.5; PackageVersion: Rev. B, 06/2010; PackageReference: DC6-6; PackageDescription: 6-Pin Plastic DFN, Body 2 x 2 mm, Pitch 0.5 mm; Supplier 1: Digi-Key; Supplier Part Number 1: LT3590EDC#TRPBF-ND; Packing: Tape and Reel; RoHS: TRUE; Mounting Technology: Surface Mount; Code_JEDEC: MO-229; ComponentLink1Description: Manufacturer URL; ComponentLink1URL: http://www.linear.com/; ComponentLink2Description: Datasheet; ComponentLink2URL: http://cds.linear.com/docs/en/datasheet/3590f.pdf; ComponentLink3Description: Package Specification; ComponentLink3URL: http://cds.linear.com/docs/en/packaging/DFN_6_05-08-1703.pdf
footprint LT-DC6-6_V (SON, 6-Leads, Body 2x2mm, Pitch 0.5mm, Thermal Pad 1.42x0.61mm)
pins: 1 CTRL (in) "Dimming and Shutdown Pin.Connect it below 100mV to disable the switcher. As the pin voltage is ramped from 0V to 1.5V, the feedback voltage (VIN-VLED) ramps from 0mV to 200mV, controlling the LBD current.", 2 GND (power) "Ground Pins. All ground pins should be tied directly to local ground plane. Proper soldering of these pins to the PCB ground is required to achieve the rated thermal performance", 3 SW "Switch Pin.Minimize inductance at this pin to minimize EMI,Connect the inductor at this pin.", 4 VIN (power) "Input Supply Pin. Must be locally bypassed", 5 LED (in) "Connection point for the anode of the highest LED and the sense resistor.", 6 VREG (power) "Internally Generated 3.3V Regulated Output Pin. Must be locally bypassed with a 0.1uF X5R capacitor.", 7 EP (power) "Ground. The Exposed Pad should be soldered to the PCB ground to achieve the rated thermal performance."

## LT3590ESC8#PBF
designator U?
48 V Buck Mode LED Driver, 4.5 to 55 V Vin, 55 V Vout MAX, 8-pin SOT23 (SC8-8), -40 to 85 degC, Pb-Free; Manufacturer: Linear Technology; PartNumber: LT3590ESC8#PBF; Topology: Buck, LED Driver; Vin Min(V): 4.5; PackageVersion: Rev. Ø, 06/2012; PackageReference: SC8-8; PackageDescription: 8-Pin Plastic SC70, Body 2 x 1.25 mm, Pitch 0.5 mm; Supplier 1: Farnell; Supplier Part Number 1: 2308212; Supplier 2: Newark; Supplier Part Number 2: 78T4028; RoHS: TRUE; Mounting Technology: Surface Mount; Code_JEDEC: MO-203; ComponentLink1Description: Manufacturer URL; ComponentLink1URL: http://www.linear.com/; ComponentLink2Description: Datasheet; ComponentLink2URL: http://cds.linear.com/docs/en/datasheet/3590f.pdf; ComponentLink3Description: Package Specification; ComponentLink3URL: http://cds.linear.com/docs/en/packaging/SOT_8_05-08-1639.pdf
footprint LT-SC8-8-SC70_N (SOT23, 8-Leads, Body 2.2x1.35mm, Pitch 0.5mm, IPC Medium Density)
footprint LT-SC8-8-SC70_L (SOT23, 8-Leads, Body 2.2x1.35mm, Pitch 0.5mm, IPC High Density)
footprint LT-SC8-8-SC70_M (SOT23, 8-Leads, Body 2.2x1.35mm, Pitch 0.5mm, IPC Low Density)
pins: 1 SW (power) "Switch Pin. Minimize trace area at this pin to minimize EMI. Connect the inductor at this pin.", 2 GND (power) "Ground Pins. All ground pins should be tied directly to local ground plane. Proper soldering of these pins to the PCB ground is required to achieve the rated thermal performance.", 3 GND (power) "Ground Pins. All ground pins should be tied directly to local ground plane. Proper soldering of these pins to the PCB ground is required to achieve the rated thermal performance.", 4 GND (power) "Ground Pins. All ground pins should be tied directly to local ground plane. Proper soldering of these pins to the PCB ground is required to achieve the rated thermal performance.", 5 CTRL (in) "Dimming and Shutdown Pin. Connect it below 100mV to disable the switcher. As the pin voltage is ramped from 0V to 1.5V, the feedback voltage (VIN-VLED) ramps from 0mV to 200mV, controlling the LBD current.", 6 VREG (power) "Internally Generated 3.3V Regulated Output Pin. Must be locally bypassed with a 0.1uF X5R capacitor.", 7 LED (in) "Connection point for the anode of the highest LED and the sense resistor.", 8 VIN (power) "Input Supply Pin. Must be locally bypassed."

## LT3590ESC8#TRMPBF
designator U?
48 V Buck Mode LED Driver, 4.5 to 55 V Vin, 55 V Vout MAX, 8-pin SOT23 (SC8-8), -40 to 85 degC, Pb-Free, Mini Tape and Reel; Manufacturer: Linear Technology; PartNumber: LT3590ESC8#TRMPBF; Topology: Buck, LED Driver; Vin Min(V): 4.5; PackageVersion: Rev. Ø, 06/2012; PackageReference: SC8-8; PackageDescription: 8-Pin Plastic SC70, Body 2 x 1.25 mm, Pitch 0.5 mm; Supplier 1: Digi-Key; Supplier Part Number 1: LT3590ESC8#TRMPBFTR-ND; Supplier 2: Digi-Key; Supplier Part Number 2: LT3590ESC8#TRMPBFCT-ND; Supplier 3: Digi-Key; Supplier Part Number 3: LT3590ESC8#TRMPBFDKR-ND; Supplier 4: Farnell; Supplier Part Number 4: 1715225; Supplier 5: Farnell; Supplier Part Number 5: 1715225RL; Supplier 6: Newark; Supplier Part Number 6: 57M8536; Packing: Mini Tape and Reel; RoHS: TRUE; Mounting Technology: Surface Mount; Code_JEDEC: MO-203; ComponentLink1Description: Manufacturer URL; ComponentLink1URL: http://www.linear.com/; ComponentLink2Description: Datasheet; ComponentLink2URL: http://cds.linear.com/docs/en/datasheet/3590f.pdf; ComponentLink3Description: Package Specification; ComponentLink3URL: http://cds.linear.com/docs/en/packaging/SOT_8_05-08-1639.pdf
footprint LT-SC8-8-SC70_N (SOT23, 8-Leads, Body 2.2x1.35mm, Pitch 0.5mm, IPC Medium Density)
footprint LT-SC8-8-SC70_L (SOT23, 8-Leads, Body 2.2x1.35mm, Pitch 0.5mm, IPC High Density)
footprint LT-SC8-8-SC70_M (SOT23, 8-Leads, Body 2.2x1.35mm, Pitch 0.5mm, IPC Low Density)
pins: 1 SW (power) "Switch Pin. Minimize trace area at this pin to minimize EMI. Connect the inductor at this pin.", 2 GND (power) "Ground Pins. All ground pins should be tied directly to local ground plane. Proper soldering of these pins to the PCB ground is required to achieve the rated thermal performance.", 3 GND (power) "Ground Pins. All ground pins should be tied directly to local ground plane. Proper soldering of these pins to the PCB ground is required to achieve the rated thermal performance.", 4 GND (power) "Ground Pins. All ground pins should be tied directly to local ground plane. Proper soldering of these pins to the PCB ground is required to achieve the rated thermal performance.", 5 CTRL (in) "Dimming and Shutdown Pin. Connect it below 100mV to disable the switcher. As the pin voltage is ramped from 0V to 1.5V, the feedback voltage (VIN-VLED) ramps from 0mV to 200mV, controlling the LBD current.", 6 VREG (power) "Internally Generated 3.3V Regulated Output Pin. Must be locally bypassed with a 0.1uF X5R capacitor.", 7 LED (in) "Connection point for the anode of the highest LED and the sense resistor.", 8 VIN (power) "Input Supply Pin. Must be locally bypassed."

## LT3590ESC8#TRPBF
designator U?
48 V Buck Mode LED Driver, 4.5 to 55 V Vin, 55 V Vout MAX, 8-pin SOT23 (SC8-8), -40 to 85 degC, Pb-Free, Tape and Reel; Manufacturer: Linear Technology; PartNumber: LT3590ESC8#TRPBF; Topology: Buck, LED Driver; Vin Min(V): 4.5; PackageVersion: Rev. Ø, 06/2012; PackageReference: SC8-8; PackageDescription: 8-Pin Plastic SC70, Body 2 x 1.25 mm, Pitch 0.5 mm; Supplier 1: Digi-Key; Supplier Part Number 1: LT3590ESC8#TRPBF-ND; Packing: Tape and Reel; RoHS: TRUE; Mounting Technology: Surface Mount; Code_JEDEC: MO-203; ComponentLink1Description: Manufacturer URL; ComponentLink1URL: http://www.linear.com/; ComponentLink2Description: Datasheet; ComponentLink2URL: http://cds.linear.com/docs/en/datasheet/3590f.pdf; ComponentLink3Description: Package Specification; ComponentLink3URL: http://cds.linear.com/docs/en/packaging/SOT_8_05-08-1639.pdf
footprint LT-SC8-8-SC70_N (SOT23, 8-Leads, Body 2.2x1.35mm, Pitch 0.5mm, IPC Medium Density)
footprint LT-SC8-8-SC70_L (SOT23, 8-Leads, Body 2.2x1.35mm, Pitch 0.5mm, IPC High Density)
footprint LT-SC8-8-SC70_M (SOT23, 8-Leads, Body 2.2x1.35mm, Pitch 0.5mm, IPC Low Density)
pins: 1 SW (power) "Switch Pin. Minimize trace area at this pin to minimize EMI. Connect the inductor at this pin.", 2 GND (power) "Ground Pins. All ground pins should be tied directly to local ground plane. Proper soldering of these pins to the PCB ground is required to achieve the rated thermal performance.", 3 GND (power) "Ground Pins. All ground pins should be tied directly to local ground plane. Proper soldering of these pins to the PCB ground is required to achieve the rated thermal performance.", 4 GND (power) "Ground Pins. All ground pins should be tied directly to local ground plane. Proper soldering of these pins to the PCB ground is required to achieve the rated thermal performance.", 5 CTRL (in) "Dimming and Shutdown Pin. Connect it below 100mV to disable the switcher. As the pin voltage is ramped from 0V to 1.5V, the feedback voltage (VIN-VLED) ramps from 0mV to 200mV, controlling the LBD current.", 6 VREG (power) "Internally Generated 3.3V Regulated Output Pin. Must be locally bypassed with a 0.1uF X5R capacitor.", 7 LED (in) "Connection point for the anode of the highest LED and the sense resistor.", 8 VIN (power) "Input Supply Pin. Must be locally bypassed."